# Altium footprint library Sangjian_Pcb.PcbLib: 434 footprints (part 14 of 28)
Each footprint in its own frame and in the unit in brackets; x right, y up, seen from the top. Pads: shape width x height; smd on the part's side, far side on the other; paste and mask are expansions set on the pad; w line width, h text height; cw(c..) or ccw(c..) is an arc to the next point about the centre after c.
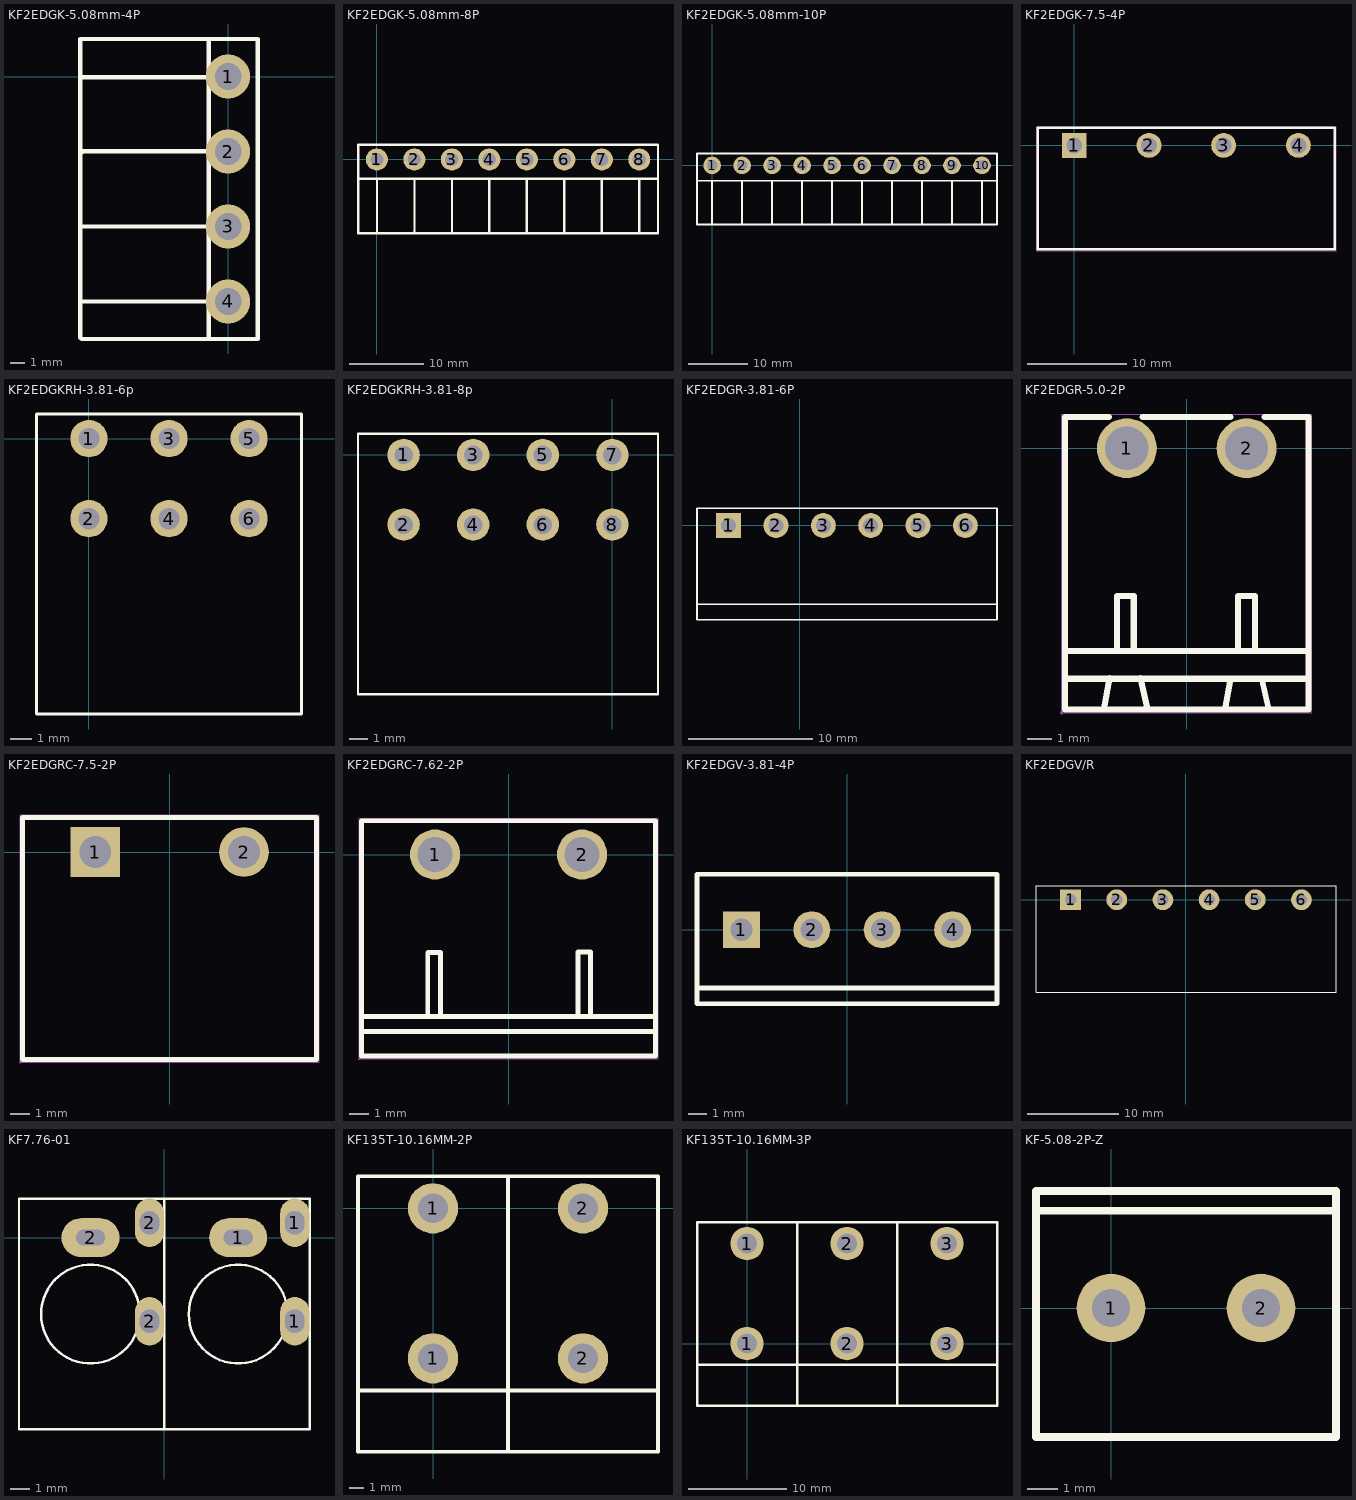
[diagram p13: the footprints below, top view; thin cyan lines are the x and y axes]

## KF2EDGK-5.08mm-4P [mm]
pads (4):
  round 3 hole 1.8: 1(0,0) 2(0,-5.08) 3(0,-10.16) 4(0,-15.24)
Top Overlay:
  lines w0.3: -10,-5.232 -9.822,-5.055 -1.302,-5.055 ; -9.975,-15.24 -1.454,-15.24 ; -9.924,-10.16 -1.404,-10.16 ; -9.913,-0.076 -9.887,-0.051 -1.302,-0.051 ; -1.302,-17.78 -1.302,2.54 ; -10,-17.704 -10,2.54 2,2.54 2,-17.78 -9.924,-17.78 -10,-17.704

## KF2EDGK-5.08mm-8P [mm]
pads (8):
  round 3 hole 1.8: 1(0,0) 2(5.08,0) 3(10.16,0) 4(15.24,0) 5(20.32,0) 6(25.4,0) 7(30.48,0) 8(35.56,0)
Top Overlay:
  lines w0.3: -2.562,-2.608 38.1,-2.608 ; 0,-9.786 0,-2.591 ; 5.055,-9.822 5.232,-10 ; 5.08,-9.822 5.08,-2.642 ; 10.16,-9.913 10.16,-2.718 ; 15.24,-9.91 15.24,-2.716 ; 20.32,-9.87 20.32,-2.675 ; 25.4,-9.857 25.4,-2.662 ; 30.48,-9.857 30.48,-2.662 ; 35.56,-9.806 35.56,-2.611 ; -2.54,-10 38.1,-10 38.1,2 -2.54,2 -2.54,-10

## KF2EDGK-5.08mm-10P [mm]
pads (10):
  round 3 hole 1.8: 1(0,0) 2(5.08,0) 3(10.16,0) 4(15.24,0) 5(20.32,0) 6(25.4,0) 7(30.48,0) 8(35.56,0) 9(40.64,0) 10(45.72,0)
Top Overlay:
  lines w0.3: -2.562,-2.608 48.26,-2.608 ; 0,-9.786 0,-2.591 ; 5.055,-9.822 5.232,-10 ; 5.08,-9.822 5.08,-2.642 ; 10.16,-9.913 10.16,-2.718 ; 15.24,-9.91 15.24,-2.716 ; 20.32,-9.87 20.32,-2.675 ; 25.4,-9.857 25.4,-2.662 ; 30.48,-9.857 30.48,-2.662 ; 35.56,-9.806 35.56,-2.611 ; 40.64,-9.9 40.64,-2.705 ; 45.72,-9.795 45.72,-2.6 ; -2.54,-10 -2.54,2 48.26,2 48.26,-10 -2.54,-10

## KF2EDGK-7.5-4P [mm]
pads (4):
  rect 2.5x2.5 hole 1.6 paste+0 mask+0.051: 1(0,0)
  round 2.5 hole 1.6 paste+0 mask+0.051: 2(7.5,0) 3(15,0) 4(22.5,0)
Top Overlay:
  lines w0.254: -3.65,-10.45 -3.65,1.75 26.15,1.75 26.15,-10.45 -3.65,-10.45
Mechanical 15:
  region: -3.717,-10.577 -3.717,-10.552 -3.752,-10.517 -3.802,-10.517 -3.837,-10.552 -3.837,-10.577 -3.837,-10.602 -3.802,-10.637 -3.752,-10.637 -3.717,-10.602
  region: 0.7,0 0.7,0.092 0.652,0.27 0.56,0.43 0.43,0.56 0.27,0.652 0.092,0.7 -0.092,0.7 -0.27,0.652 -0.43,0.56 -0.56,0.43 -0.652,0.27 -0.7,0.092 -0.7,0 -0.7,-0.092 -0.652,-0.27 -0.56,-0.43 -0.43,-0.56 -0.27,-0.652 -0.092,-0.7 0.092,-0.7 0.27,-0.652 0.43,-0.56 0.56,-0.43 0.652,-0.27 0.7,-0.092
  region: 8.2,0 8.2,0.092 8.152,0.27 8.06,0.43 7.93,0.56 7.77,0.652 7.592,0.7 7.408,0.7 7.23,0.652 7.07,0.56 6.94,0.43 6.847,0.27 6.8,0.092 6.8,0 6.8,-0.092 6.847,-0.27 6.94,-0.43 7.07,-0.56 7.23,-0.652 7.408,-0.7 7.592,-0.7 7.77,-0.652 7.93,-0.56 8.06,-0.43 8.152,-0.27 8.2,-0.092
  region: 15.7,0 15.7,0.092 15.652,0.27 15.56,0.43 15.43,0.56 15.27,0.652 15.092,0.7 14.908,0.7 14.73,0.652 14.57,0.56 14.44,0.43 14.348,0.27 14.3,0.092 14.3,0 14.3,-0.092 14.348,-0.27 14.44,-0.43 14.57,-0.56 14.73,-0.652 14.908,-0.7 15.092,-0.7 15.27,-0.652 15.43,-0.56 15.56,-0.43 15.652,-0.27 15.7,-0.092
  region: 23.2,0 23.2,0.092 23.152,0.27 23.06,0.43 22.93,0.56 22.77,0.652 22.592,0.7 22.408,0.7 22.23,0.652 22.07,0.56 21.94,0.43 21.847,0.27 21.8,0.092 21.8,0 21.8,-0.092 21.847,-0.27 21.94,-0.43 22.07,-0.56 22.23,-0.652 22.408,-0.7 22.592,-0.7 22.77,-0.652 22.93,-0.56 23.06,-0.43 23.152,-0.27 23.2,-0.092
  lines w0.051: -3.777,-10.577 26.277,-10.577 26.277,1.877 -3.777,1.877 -3.777,-10.577

## KF2EDGKRH-3.81-6p [mil]
pads (6):
  round 70 hole 39.37: 1(0,0)
  round 70 hole 40: 2(0,-150) 3(150,0) 4(150,-150) 5(300,0) 6(300,-150)
Top Overlay:
  lines w5: -98.43,-516.14 -98.43,46 398.43,46 398.43,-516.14 -98.43,-516.14

## KF2EDGKRH-3.81-8p [mil]
pads (8):
  round 70 hole 39.37: 1(-450,0)
  round 70 hole 40: 2(-450,-150) 3(-300,0) 4(-300,-150) 5(-150,0) 6(-150,-150) 7(0,0) 8(0,-150)
Top Overlay:
  lines w5: -548.43,-516.14 98.43,-516.14 98.43,46 -548.43,46 -548.43,-516.14

## KF2EDGR-3.81-6P [mm]
pads (6):
  rect 2x2 hole 1.2: 1(-5.715,0)
  round 2 hole 1.2: 2(-1.905,0) 3(1.905,0) 4(5.715,0) 5(9.525,0) 6(13.335,0)
Top Overlay:
  lines w0.127: -8.235,-6.33 15.88,-6.33 ; 8.255,1.397 15.875,1.397 ; 8.26,1.4 -8.26,1.4 -8.26,-7.6 15.88,-7.6 15.88,1.4

## KF2EDGR-5.0-2P [mm]
pads (2):
  round 2.5 hole 1.8 paste+0 mask+0.051: 1(-2.5,0) 2(2.5,0)
Top Overlay:
  lines w0.254: -5.08,-9.619 5.08,-9.619 ; -5.08,-8.457 5.08,-8.457 ; -3.458,-10.879 -3.224,-9.598 ; -3.247,1.3 -5.08,1.3 -5.08,-10.9 5.08,-10.9 5.08,1.3 3.247,1.3 ; -2.913,-8.395 -2.913,-6.163 -2.209,-6.163 -2.209,-8.395 -2.209,-8.322 ; -1.929,-9.598 -1.637,-10.879 ; -1.833,1.3 1.833,1.3 ; 1.601,-10.901 1.835,-9.62 ; 2.14,-8.4 2.14,-6.167 2.844,-6.167 2.844,-8.4 2.844,-8.326 ; 3.13,-9.62 3.422,-10.901
Mechanical 15:
  region: -5.147,-11.028 -5.147,-11.004 -5.182,-10.968 -5.232,-10.968 -5.267,-11.004 -5.267,-11.028 -5.267,-11.053 -5.232,-11.088 -5.182,-11.088 -5.147,-11.053
  region: 3.3,0 3.3,0.105 3.246,0.309 3.14,0.491 2.991,0.64 2.809,0.745 2.605,0.8 2.395,0.8 2.191,0.745 2.009,0.64 1.86,0.491 1.755,0.309 1.7,0.105 1.7,0 1.7,-0.105 1.755,-0.309 1.86,-0.491 2.009,-0.64 2.191,-0.745 2.395,-0.8 2.605,-0.8 2.809,-0.745 2.991,-0.64 3.14,-0.491 3.246,-0.309 3.3,-0.105
  region: -1.7,0 -1.7,0.105 -1.754,0.309 -1.86,0.491 -2.009,0.64 -2.191,0.745 -2.395,0.8 -2.605,0.8 -2.809,0.745 -2.991,0.64 -3.14,0.491 -3.245,0.309 -3.3,0.105 -3.3,0 -3.3,-0.105 -3.245,-0.309 -3.14,-0.491 -2.991,-0.64 -2.809,-0.745 -2.605,-0.8 -2.395,-0.8 -2.191,-0.745 -2.009,-0.64 -1.86,-0.491 -1.754,-0.309 -1.7,-0.105
  lines w0.051: -5.207,-11.028 -5.207,1.427 5.207,1.427 5.207,-11.028 -5.207,-11.028

## KF2EDGRC-7.5-2P [mm]
pads (2):
  rect 2.5x2.5 hole 1.6 paste+0 mask+0.051: 1(-3.75,0)
  round 2.5 hole 1.6 paste+0 mask+0.051: 2(3.75,0)
Top Overlay:
  lines w0.254: -7.4,-10.45 7.4,-10.45 7.4,1.75 -7.4,1.75 -7.4,-10.45
Mechanical 15:
  region: 4.45,0 4.45,0.092 4.402,0.27 4.31,0.43 4.18,0.56 4.02,0.652 3.842,0.7 3.658,0.7 3.48,0.652 3.32,0.56 3.19,0.43 3.098,0.27 3.05,0.092 3.05,0 3.05,-0.092 3.098,-0.27 3.19,-0.43 3.32,-0.56 3.48,-0.652 3.658,-0.7 3.842,-0.7 4.02,-0.652 4.18,-0.56 4.31,-0.43 4.402,-0.27 4.45,-0.092
  region: -3.05,0 -3.05,0.092 -3.098,0.27 -3.19,0.43 -3.32,0.56 -3.48,0.652 -3.658,0.7 -3.842,0.7 -4.02,0.652 -4.18,0.56 -4.31,0.43 -4.402,0.27 -4.45,0.092 -4.45,0 -4.45,-0.092 -4.402,-0.27 -4.31,-0.43 -4.18,-0.56 -4.02,-0.652 -3.842,-0.7 -3.658,-0.7 -3.48,-0.652 -3.32,-0.56 -3.19,-0.43 -3.098,-0.27 -3.05,-0.092
  region: -7.467,-10.577 -7.467,-10.552 -7.502,-10.517 -7.552,-10.517 -7.587,-10.552 -7.587,-10.577 -7.587,-10.602 -7.552,-10.637 -7.502,-10.637 -7.467,-10.602
  lines w0.051: -7.527,-10.577 -7.527,1.877 7.527,1.877 7.527,-10.577 -7.527,-10.577

## KF2EDGRC-7.62-2P [mm]
pads (2):
  round 2.6 hole 1.8: 1(-3.81,0) 2(3.81,0)
Top Overlay:
  lines w0.254: -7.62,-9.173 7.62,-9.173 ; -7.62,-8.396 7.62,-8.396 ; -4.19,-8.4 -4.19,-5.074 ; -4.19,-5.07 -3.525,-5.07 ; -3.525,-8.4 -3.525,-5.074 ; 3.59,-8.38 3.59,-5.054 ; 3.59,-5.05 4.255,-5.05 ; 4.255,-8.38 4.255,-5.054 ; -7.62,-10.45 -7.62,1.75 7.62,1.75 7.62,-10.45 -7.62,-10.45
Mechanical 15:
  region: -3.01,0 -3.01,0.105 -3.065,0.309 -3.17,0.491 -3.319,0.64 -3.501,0.745 -3.705,0.8 -3.915,0.8 -4.119,0.745 -4.301,0.64 -4.45,0.491 -4.555,0.309 -4.61,0.105 -4.61,0 -4.61,-0.105 -4.555,-0.309 -4.45,-0.491 -4.301,-0.64 -4.119,-0.745 -3.915,-0.8 -3.705,-0.8 -3.501,-0.745 -3.319,-0.64 -3.17,-0.491 -3.065,-0.309 -3.01,-0.105 -3.01,0
  region: 4.61,0 4.61,0.105 4.555,0.309 4.45,0.491 4.301,0.64 4.119,0.745 3.915,0.8 3.705,0.8 3.501,0.745 3.319,0.64 3.17,0.491 3.065,0.309 3.01,0.105 3.01,0 3.01,-0.105 3.065,-0.309 3.17,-0.491 3.319,-0.64 3.501,-0.745 3.705,-0.8 3.915,-0.8 4.119,-0.745 4.301,-0.64 4.45,-0.491 4.555,-0.309 4.61,-0.105 4.61,0
  region: -7.687,-10.577 -7.687,-10.552 -7.722,-10.517 -7.772,-10.517 -7.807,-10.552 -7.807,-10.577 -7.807,-10.602 -7.772,-10.637 -7.722,-10.637 -7.687,-10.602 -7.687,-10.577
  lines w0.051: -7.747,-10.577 7.747,-10.577 7.747,1.877 -7.747,1.877 -7.747,-10.577

## KF2EDGV-3.81-4P [mm]
pads (4):
  rect 2x2 hole 1.2: 1(-5.715,0)
  round 2 hole 1.2: 2(-1.905,0) 3(1.905,0) 4(5.715,0)
Top Overlay:
  lines w0.254: -8.12,-3.15 8.052,-3.15 8.077,-3.124 ; -8.12,-4 8.12,-4 8.12,3 -8.12,3 -8.12,-4

## KF2EDGV/R [mil]
pads (6):
  rect 90x90 hole 50: 1(-500,0)
  round 90 hole 50: 2(-300,0) 3(-100,0) 4(100,0) 5(300,0) 6(500,0)
Top Overlay:
  lines w5: -650,-400 -650,60 650,60 650,-400 -650,-400

## KF7.76-01 [mm]
pads (6):
  oval 3x2 hole 0.8 slot 1.5 at 0 deg: 1(3.81,0) 2(-3.81,0)
  oval 1.5x2.5 hole 1 slot 1.2 at 90 deg: 1(6.731,-4.318) 1(6.731,0.762) 2(-0.762,-4.318) 2(-0.762,0.762)
Top Overlay:
  circle w0.127: c3.81,-3.95 r2.55
  circle w0.127: c-3.81,-3.95 r2.55
  lines w0.127: 0,-9.9 0,2 ; -7.5,-9.9 -7.5,2 7.5,2 7.5,-9.9 -7.5,-9.9

## KF135T-10.16MM-2P [mm]
pads (4):
  round 3.4 hole 2: 1(0,-10.16) 1(0,0) 2(10.16,-10.16) 2(10.16,0)
Top Overlay:
  lines w0.254: -5.08,-12.33 15.24,-12.33 ; 5.055,2.145 5.08,2.119 5.08,-12.41 ; 5.08,-16.48 5.08,-12.33 ; 15.215,2.094 15.24,2.068 15.24,-12.305 15.24,-16.455 ; 15.24,-16.48 -5.08,-16.48 -5.08,2.17 15.24,2.17

## KF135T-10.16MM-3P [mm]
pads (6):
  round 3.4 hole 2: 1(0,0) 1(0,10.16) 2(10.16,0) 2(10.16,10.16) 3(20.32,0) 3(20.32,10.16)
Top Overlay:
  lines w0.254: -5.08,-2.17 25.4,-2.17 ; 5.055,12.305 5.08,12.279 5.08,-2.25 ; 5.08,-6.32 5.08,-2.17 ; 15.215,12.254 15.24,12.228 15.24,-2.145 15.24,-6.295 ; -5.08,-6.32 -5.08,12.33 25.4,12.33 25.4,-6.32 -5.08,-6.32

## KF-5.08-2P-Z [mil]
pads (2):
  round 90 hole 50: 1(0,0) 2(196.85,0)
Top Overlay:
  lines w10: -96.43,127.71 291.57,127.71 293.57,125.71 ; -98.43,-169.29 -98.43,153.54 295.28,153.54 295.28,-169.29 -98.43,-169.29